# EAGLE library part PCI-80-POS (library con-amp)
PCI-SLOT 80 Dual Position 0.05 Series Standard Edge Source: http://catalog.tycoelectronics.com .. ENG_CD_650090_AA.tif.tiff
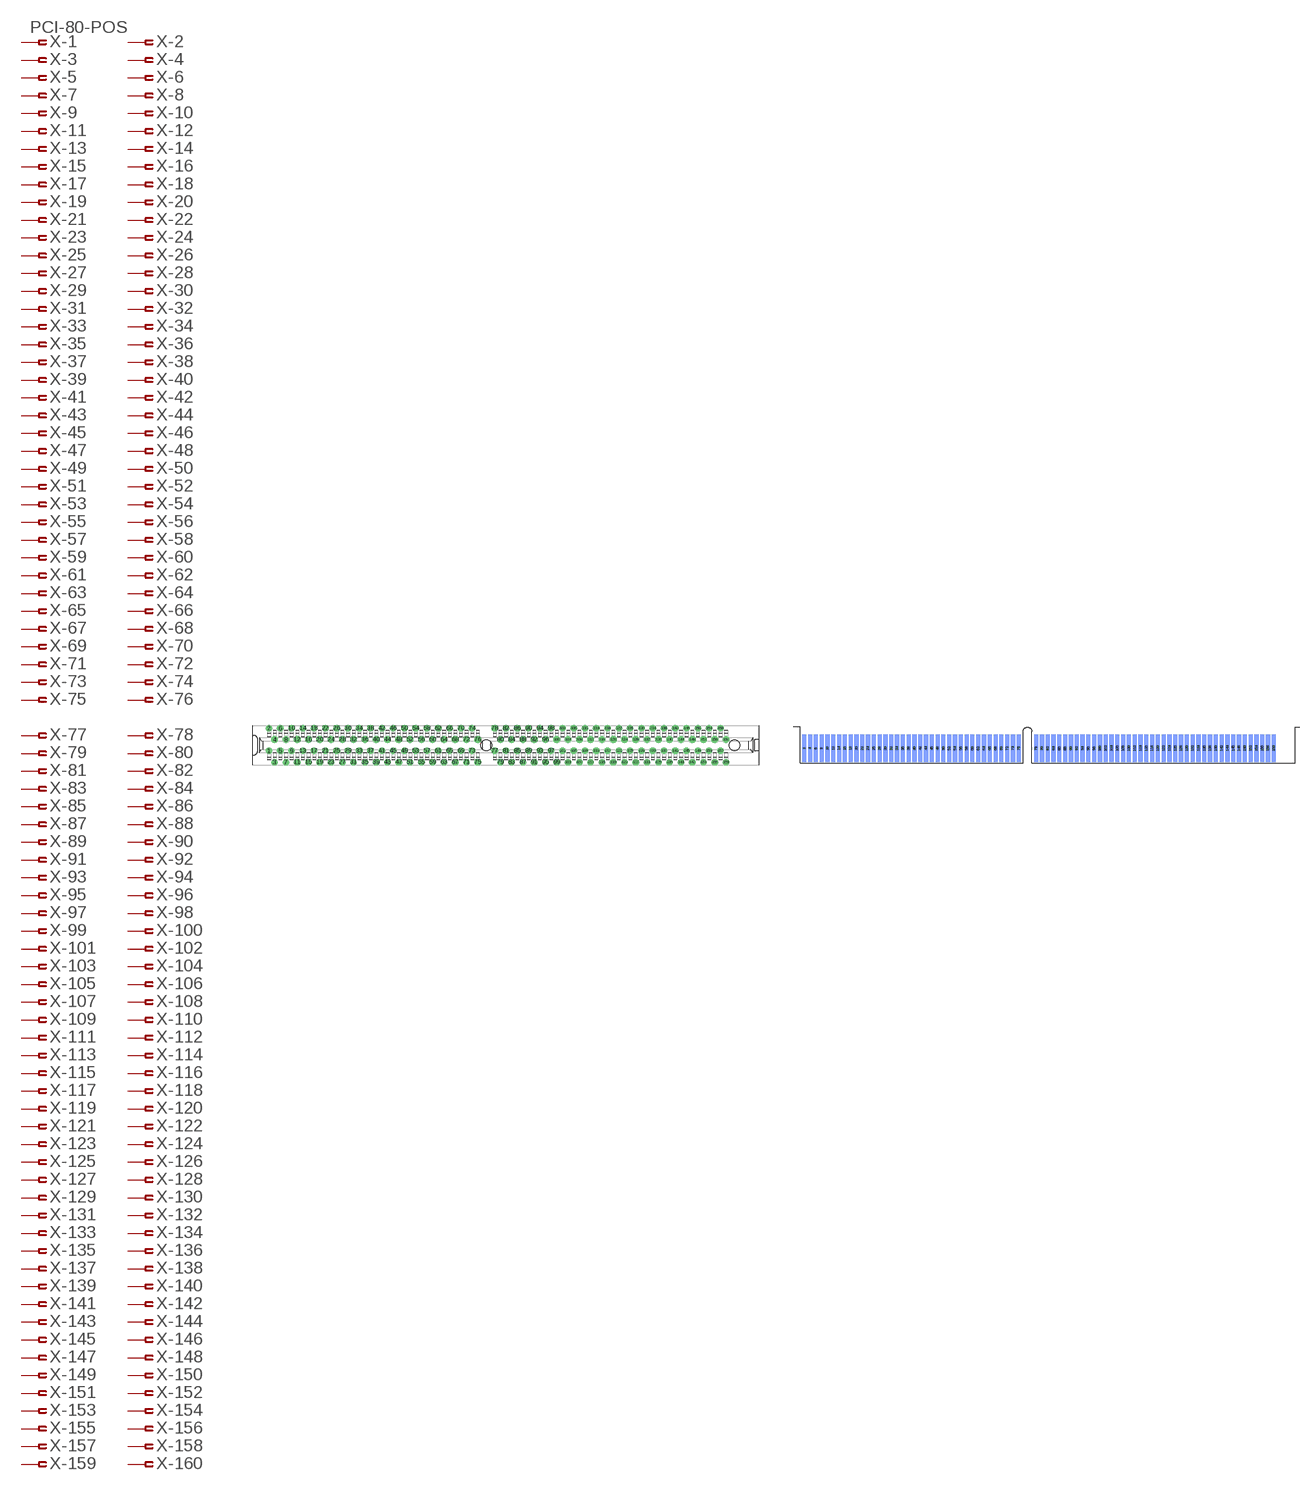
[diagram p136: symbol with the pads of 1-650090-1; footprints 1-650090-1, PCI-SLOT-80]

Designator prefix X; gates -1=PIN-FV -2=PIN-F -3=PIN-F -4=PIN-F -5=PIN-F -6=PIN-F -7=PIN-F -8=PIN-F -9=PIN-F -10=PIN-F -11=PIN-F -12=PIN-F -13=PIN-F -14=PIN-F -15=PIN-F -16=PIN-F -17=PIN-F -18=PIN-F -19=PIN-F -20=PIN-F -21=PIN-F -22=PIN-F -23=PIN-F -24=PIN-F -25=PIN-F -26=PIN-F -27=PIN-F -28=PIN-F -29=PIN-F -30=PIN-F -31=PIN-F -32=PIN-F -33=PIN-F -34=PIN-F -35=PIN-F -36=PIN-F -37=PIN-F -38=PIN-F -39=PIN-F -40=PIN-F -41=PIN-F -42=PIN-F -43=PIN-F -44=PIN-F -45=PIN-F -46=PIN-F -47=PIN-F -48=PIN-F -49=PIN-F -50=PIN-F -51=PIN-F -52=PIN-F -53=PIN-F -54=PIN-F -55=PIN-F -56=PIN-F -57=PIN-F -58=PIN-F -59=PIN-F -60=PIN-F -61=PIN-F -62=PIN-F -63=PIN-F -64=PIN-F -65=PIN-F -66=PIN-F -67=PIN-F -68=PIN-F -69=PIN-F -70=PIN-F -71=PIN-F -72=PIN-F -73=PIN-F -74=PIN-F -75=PIN-F -76=PIN-F -77=PIN-F -78=PIN-F -79=PIN-F -80=PIN-F -81=PIN-F -82=PIN-F -83=PIN-F -84=PIN-F -85=PIN-F -86=PIN-F -87=PIN-F -88=PIN-F -89=PIN-F -90=PIN-F -91=PIN-F -92=PIN-F -93=PIN-F -94=PIN-F -95=PIN-F -96=PIN-F -97=PIN-F -98=PIN-F -99=PIN-F -100=PIN-F -101=PIN-F -102=PIN-F -103=PIN-F -104=PIN-F -105=PIN-F -106=PIN-F -107=PIN-F -108=PIN-F -109=PIN-F -110=PIN-F -111=PIN-F -112=PIN-F -113=PIN-F -114=PIN-F -115=PIN-F -116=PIN-F -117=PIN-F -118=PIN-F -119=PIN-F -120=PIN-F -121=PIN-F -122=PIN-F -123=PIN-F -124=PIN-F -125=PIN-F -126=PIN-F -127=PIN-F -128=PIN-F -129=PIN-F -130=PIN-F -131=PIN-F -132=PIN-F -133=PIN-F -134=PIN-F -135=PIN-F -136=PIN-F -137=PIN-F -138=PIN-F -139=PIN-F -140=PIN-F -141=PIN-F -142=PIN-F -143=PIN-F -144=PIN-F -145=PIN-F -146=PIN-F -147=PIN-F -148=PIN-F -149=PIN-F -150=PIN-F -151=PIN-F -152=PIN-F -153=PIN-F -154=PIN-F -155=PIN-F -156=PIN-F -157=PIN-F -158=PIN-F -159=PIN-F -160=PIN-F

## PCI-80-POS-1-650090-1  [1-650090-1]
1  -1:1  pas
2  -2:1  pas
3  -3:1  pas
4  -4:1  pas
5  -5:1  pas
6  -6:1  pas
7  -7:1  pas
8  -8:1  pas
9  -9:1  pas
10  -10:1  pas
11  -11:1  pas
12  -12:1  pas
13  -13:1  pas
14  -14:1  pas
15  -15:1  pas
16  -16:1  pas
17  -17:1  pas
18  -18:1  pas
19  -19:1  pas
20  -20:1  pas
21  -21:1  pas
22  -22:1  pas
23  -23:1  pas
24  -24:1  pas
25  -25:1  pas
26  -26:1  pas
27  -27:1  pas
28  -28:1  pas
29  -29:1  pas
30  -30:1  pas
31  -31:1  pas
32  -32:1  pas
33  -33:1  pas
34  -34:1  pas
35  -35:1  pas
36  -36:1  pas
37  -37:1  pas
38  -38:1  pas
39  -39:1  pas
40  -40:1  pas
41  -41:1  pas
42  -42:1  pas
43  -43:1  pas
44  -44:1  pas
45  -45:1  pas
46  -46:1  pas
47  -47:1  pas
48  -48:1  pas
49  -49:1  pas
50  -50:1  pas
51  -51:1  pas
52  -52:1  pas
53  -53:1  pas
54  -54:1  pas
55  -55:1  pas
56  -56:1  pas
57  -57:1  pas
58  -58:1  pas
59  -59:1  pas
60  -60:1  pas
61  -61:1  pas
62  -62:1  pas
63  -63:1  pas
64  -64:1  pas
65  -65:1  pas
66  -66:1  pas
67  -67:1  pas
68  -68:1  pas
69  -69:1  pas
70  -70:1  pas
71  -71:1  pas
72  -72:1  pas
73  -73:1  pas
74  -74:1  pas
75  -75:1  pas
76  -76:1  pas
77  -77:1  pas
78  -78:1  pas
79  -79:1  pas
80  -80:1  pas
81  -81:1  pas
82  -82:1  pas
83  -83:1  pas
84  -84:1  pas
85  -85:1  pas
86  -86:1  pas
87  -87:1  pas
88  -88:1  pas
89  -89:1  pas
90  -90:1  pas
91  -91:1  pas
92  -92:1  pas
93  -93:1  pas
94  -94:1  pas
95  -95:1  pas
96  -96:1  pas
97  -97:1  pas
98  -98:1  pas
99  -99:1  pas
100  -100:1  pas
101  -101:1  pas
102  -102:1  pas
103  -103:1  pas
104  -104:1  pas
105  -105:1  pas
106  -106:1  pas
107  -107:1  pas
108  -108:1  pas
109  -109:1  pas
110  -110:1  pas
111  -111:1  pas
112  -112:1  pas
113  -113:1  pas
114  -114:1  pas
115  -115:1  pas
116  -116:1  pas
117  -117:1  pas
118  -118:1  pas
119  -119:1  pas
120  -120:1  pas
121  -121:1  pas
122  -122:1  pas
123  -123:1  pas
124  -124:1  pas
125  -125:1  pas
126  -126:1  pas
127  -127:1  pas
128  -128:1  pas
129  -129:1  pas
130  -130:1  pas
131  -131:1  pas
132  -132:1  pas
133  -133:1  pas
134  -134:1  pas
135  -135:1  pas
136  -136:1  pas
137  -137:1  pas
138  -138:1  pas
139  -139:1  pas
140  -140:1  pas
141  -141:1  pas
142  -142:1  pas
143  -143:1  pas
144  -144:1  pas
145  -145:1  pas
146  -146:1  pas
147  -147:1  pas
148  -148:1  pas
149  -149:1  pas
150  -150:1  pas
151  -151:1  pas
152  -152:1  pas
153  -153:1  pas
154  -154:1  pas
155  -155:1  pas
156  -156:1  pas
157  -157:1  pas
158  -158:1  pas
159  -159:1  pas
160  -160:1  pas

## PCI-80-POS-SLOT  [PCI-SLOT-80]
Pads as for 1-650090-1

## Footprint 1-650090-1 (pad centres in mm)
PCI Connector 80 Dual Pos. Standard Edge .050 Series PCI Source: http://catalog.tycoelectronics.com .. ENG_CD_650090_AA.tif.tiff (ENG_SS_114-26012_O.pdf)
drill 1 pad 1.2: 1 0,-1.27; 2 0,3.81; 3 1.27,-3.81; 4 1.27,1.27; 5 2.54,-1.27; 6 2.54,3.81; 7 3.81,-3.81; 8 3.81,1.27; 9 5.08,-1.27; 10 5.08,3.81; 11 6.35,-3.81; 12 6.35,1.27; 13 7.62,-1.27; 14 7.62,3.81; 15 8.89,-3.81; 16 8.89,1.27; 17 10.16,-1.27; 18 10.16,3.81; 19 11.43,-3.81; 20 11.43,1.27; 21 12.7,-1.27; 22 12.7,3.81; 23 13.97,-3.81; 24 13.97,1.27; 25 15.24,-1.27; 26 15.24,3.81; 27 16.51,-3.81; 28 16.51,1.27; 29 17.78,-1.27; 30 17.78,3.81; 31 19.05,-3.81; 32 19.05,1.27; 33 20.32,-1.27; 34 20.32,3.81; 35 21.59,-3.81; 36 21.59,1.27; 37 22.86,-1.27; 38 22.86,3.81; 39 24.13,-3.81; 40 24.13,1.27; 41 25.4,-1.27; 42 25.4,3.81; 43 26.67,-3.81; 44 26.67,1.27; 45 27.94,-1.27; 46 27.94,3.81; 47 29.21,-3.81; 48 29.21,1.27; 49 30.48,-1.27; 50 30.48,3.81; 51 31.75,-3.81; 52 31.75,1.27; 53 33.02,-1.27; 54 33.02,3.81; 55 34.29,-3.81; 56 34.29,1.27; 57 35.56,-1.27; 58 35.56,3.81; 59 36.83,-3.81; 60 36.83,1.27; 61 38.1,-1.27; 62 38.1,3.81; 63 39.37,-3.81; 64 39.37,1.27; 65 40.64,-1.27; 66 40.64,3.81; 67 41.91,-3.81; 68 41.91,1.27; 69 43.18,-1.27; 70 43.18,3.81; 71 44.45,-3.81; 72 44.45,1.27; 73 45.72,-1.27; 74 45.72,3.81; 75 46.99,-3.81; 76 46.99,1.27; 77 50.8,-1.27; 78 50.8,3.81; 79 52.07,-3.81; 80 52.07,1.27; 81 53.34,-1.27; 82 53.34,3.81; 83 54.61,-3.81; 84 54.61,1.27; 85 55.88,-1.27; 86 55.88,3.81; 87 57.15,-3.81; 88 57.15,1.27; 89 58.42,-1.27; 90 58.42,3.81; 91 59.69,-3.81; 92 59.69,1.27; 93 60.96,-1.27; 94 60.96,3.81; 95 62.23,-3.81; 96 62.23,1.27; 97 63.5,-1.27; 98 63.5,3.81; 99 64.77,-3.81; 100 64.77,1.27; 101 66.04,-1.27; 102 66.04,3.81; 103 67.31,-3.81; 104 67.31,1.27; 105 68.58,-1.27; 106 68.58,3.81; 107 69.85,-3.81; 108 69.85,1.27; 109 71.12,-1.27; 110 71.12,3.81; 111 72.39,-3.81; 112 72.39,1.27; 113 73.66,-1.27; 114 73.66,3.81; 115 74.93,-3.81; 116 74.93,1.27; 117 76.2,-1.27; 118 76.2,3.81; 119 77.47,-3.81; 120 77.47,1.27; 121 78.74,-1.27; 122 78.74,3.81; 123 80.01,-3.81; 124 80.01,1.27; 125 81.28,-1.27; 126 81.28,3.81; 127 82.55,-3.81; 128 82.55,1.27; 129 83.82,-1.27; 130 83.82,3.81; 131 85.09,-3.81; 132 85.09,1.27; 133 86.36,-1.27; 134 86.36,3.81; 135 87.63,-3.81; 136 87.63,1.27; 137 88.9,-1.27; 138 88.9,3.81; 139 90.17,-3.81; 140 90.17,1.27; 141 91.44,-1.27; 142 91.44,3.81; 143 92.71,-3.81; 144 92.71,1.27; 145 93.98,-1.27; 146 93.98,3.81; 147 95.25,-3.81; 148 95.25,1.27; 149 96.52,-1.27; 150 96.52,3.81; 151 97.79,-3.81; 152 97.79,1.27; 153 99.06,-1.27; 154 99.06,3.81; 155 100.33,-3.81; 156 100.33,1.27; 157 101.6,-1.27; 158 101.6,3.81; 159 102.87,-3.81; 160 102.87,1.27
hole 2.44 at 48.89,0
hole 2.44 at 104.77,0

## Footprint PCI-SLOT-80 (pad centres in mm)
PCI Connector 80 Dual Pos. Standard Edge .050 Series PCI Source: http://catalog.tycoelectronics.com .. ENG_CD_650090_AA.tif.tiff
smd 0.91 x 6: 1 0,3.22; 3 1.27,3.22; 5 2.54,3.22; 7 3.81,3.22; 9 5.08,3.22; 11 6.35,3.22; 13 7.62,3.22; 15 8.89,3.22; 17 10.16,3.22; 19 11.43,3.22; 21 12.7,3.22; 23 13.97,3.22; 25 15.24,3.22; 27 16.51,3.22; 29 17.78,3.22; 31 19.05,3.22; 33 20.32,3.22; 35 21.59,3.22; 37 22.86,3.22; 39 24.13,3.22; 41 25.4,3.22; 43 26.67,3.22; 45 27.94,3.22; 47 29.21,3.22; 49 30.48,3.22; 51 31.75,3.22; 53 33.02,3.22; 55 34.29,3.22; 57 35.56,3.22; 59 36.83,3.22; 61 38.1,3.22; 63 39.37,3.22; 65 40.64,3.22; 67 41.91,3.22; 69 43.18,3.22; 71 44.45,3.22; 73 45.72,3.22; 75 46.99,3.22; 77 50.8,3.22; 79 52.07,3.22; 81 53.34,3.22; 83 54.61,3.22; 85 55.88,3.22; 87 57.15,3.22; 89 58.42,3.22; 91 59.69,3.22; 93 60.96,3.22; 95 62.23,3.22; 97 63.5,3.22; 99 64.77,3.22; 101 66.04,3.22; 103 67.31,3.22; 105 68.58,3.22; 107 69.85,3.22; 109 71.12,3.22; 111 72.39,3.22; 113 73.66,3.22; 115 74.93,3.22; 117 76.2,3.22; 119 77.47,3.22; 121 78.74,3.22; 123 80.01,3.22; 125 81.28,3.22; 127 82.55,3.22; 129 83.82,3.22; 131 85.09,3.22; 133 86.36,3.22; 135 87.63,3.22; 137 88.9,3.22; 139 90.17,3.22; 141 91.44,3.22; 143 92.71,3.22; 145 93.98,3.22; 147 95.25,3.22; 149 96.52,3.22; 151 97.79,3.22; 153 99.06,3.22; 155 100.33,3.22; 157 101.6,3.22; 159 102.87,3.22
smd 0.91 x 6 bottom: 2 0,3.22; 4 1.27,3.22; 6 2.54,3.22; 8 3.81,3.22; 10 5.08,3.22; 12 6.35,3.22; 14 7.62,3.22; 16 8.89,3.22; 18 10.16,3.22; 20 11.43,3.22; 22 12.7,3.22; 24 13.97,3.22; 26 15.24,3.22; 28 16.51,3.22; 30 17.78,3.22; 32 19.05,3.22; 34 20.32,3.22; 36 21.59,3.22; 38 22.86,3.22; 40 24.13,3.22; 42 25.4,3.22; 44 26.67,3.22; 46 27.94,3.22; 48 29.21,3.22; 50 30.48,3.22; 52 31.75,3.22; 54 33.02,3.22; 56 34.29,3.22; 58 35.56,3.22; 60 36.83,3.22; 62 38.1,3.22; 64 39.37,3.22; 66 40.64,3.22; 68 41.91,3.22; 70 43.18,3.22; 72 44.45,3.22; 74 45.72,3.22; 76 46.99,3.22; 78 50.8,3.22; 80 52.07,3.22; 82 53.34,3.22; 84 54.61,3.22; 86 55.88,3.22; 88 57.15,3.22; 90 58.42,3.22; 92 59.69,3.22; 94 60.96,3.22; 96 62.23,3.22; 98 63.5,3.22; 100 64.77,3.22; 102 66.04,3.22; 104 67.31,3.22; 106 68.58,3.22; 108 69.85,3.22; 110 71.12,3.22; 112 72.39,3.22; 114 73.66,3.22; 116 74.93,3.22; 118 76.2,3.22; 120 77.47,3.22; 122 78.74,3.22; 124 80.01,3.22; 126 81.28,3.22; 128 82.55,3.22; 130 83.82,3.22; 132 85.09,3.22; 134 86.36,3.22; 136 87.63,3.22; 138 88.9,3.22; 140 90.17,3.22; 142 91.44,3.22; 144 92.71,3.22; 146 93.98,3.22; 148 95.25,3.22; 150 96.52,3.22; 152 97.79,3.22; 154 99.06,3.22; 156 100.33,3.22; 158 101.6,3.22; 160 102.87,3.22